# Altium footprint library Male_Header_1×3 2.54mm.PcbLib: 1 footprints
Each footprint in its own frame and in the unit in brackets; x right, y up, seen from the top. Pads: shape width x height; smd on the part's side, far side on the other; paste and mask are expansions set on the pad; w line width, h text height; cw(c..) or ccw(c..) is an arc to the next point about the centre after c.
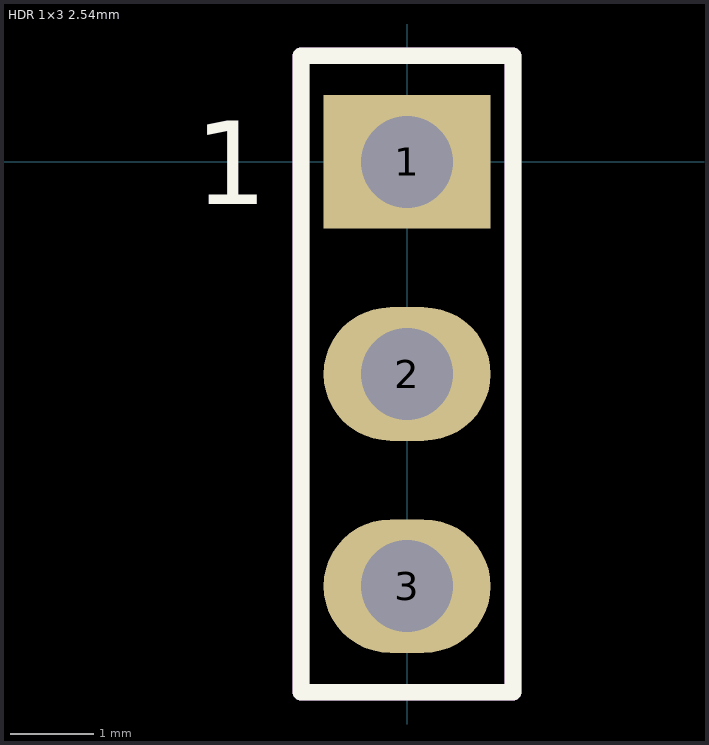
[diagram p0: the footprint, top view; thin cyan lines are the x and y axes]

## HDR 1×3 2.54mm [mm]
pads (3):
  rect 2x1.6 hole 1.1: 1(0,0)
  oval 2x1.6 hole 1.1: 2(0,-2.54) 3(0,-5.08)
Top Overlay:
  lines w0.2: -1.27,-6.35 -0.635,-6.35 0.635,-6.35 1.27,-6.35 1.27,1.27 -1.27,1.27 -1.27,-6.35
  text "1" at -2.54,-0.508 h1
Mechanical 2:
  lines w0.2: -1.27,-6.35 -0.635,-6.35 0.635,-6.35 1.27,-6.35 1.27,1.27 0.635,1.27 -0.635,1.27 -1.27,1.27 -1.27,-6.35
  text ".Designator" at 0.254,-3.556 h1.52
3D body "HDR_1x3_White.stp": height 8.39, standoff -3.11, extent -1.245,-6.15 1.165,1.07